# EAGLE library part NHD-C0216CIZ-FSW-FBW-3V3 (library Takaitra)
LCD Character Display Module - I2C
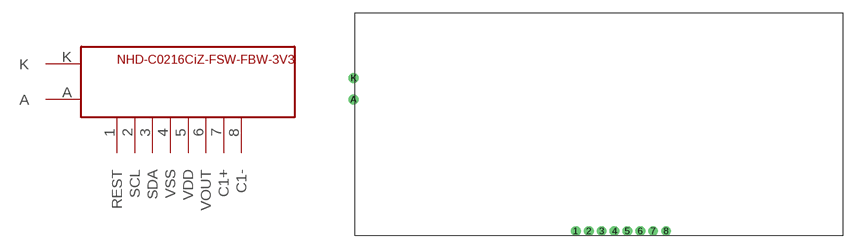
[diagram p2: symbol with the pads of NHD-C0216CIZ-FSW-FBW-3V3; footprint NHD-C0216CIZ-FSW-FBW-3V3]

Designator prefix -

## NHD-C0216CIZ-FSW-FBW-3V3  [NHD-C0216CIZ-FSW-FBW-3V3]
1  REST
2  SCL
3  SDA
4  VSS  pwr
5  VDD  pwr
6  VOUT
7  C1+  pas
8  C1-  pas
A  A
K  K  pwr

## Footprint NHD-C0216CIZ-FSW-FBW-3V3 (pad centres in mm)
NHD-C0216CiZ-FSW-FBW-3V3
drill 0.635: 1 -2.667,-12.446; 2 -1.168,-12.446; 3 0.33,-12.446; 4 1.829,-12.446; 5 3.327,-12.446; 6 4.826,-12.446; 7 6.325,-12.446; 8 7.833,-12.446; A -28.567,2.894; K -28.567,5.394